# EAGLE library part LTC1622 (library xess)
Low input voltage current mode step-down DC/DC controller
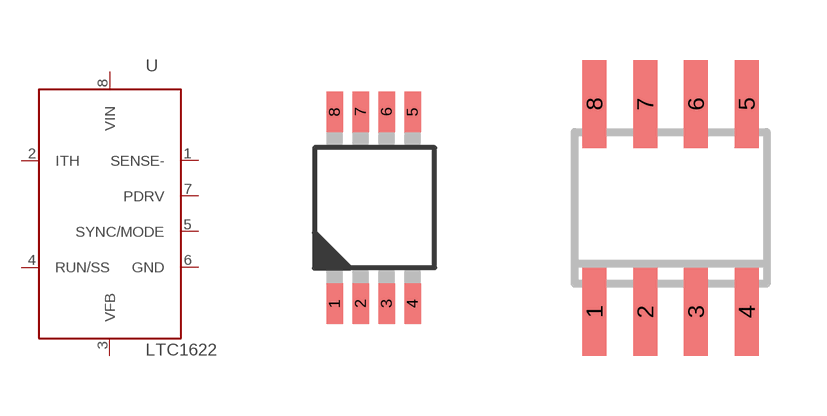
[diagram p31: symbol with the pads of MSOP8; footprints MSOP8, SO8]

Designator prefix U

## LTC1622-MSOP8  [MSOP8]
1  SENSE-  in
2  ITH  pas
3  VFB  in
4  RUN/SS  pas
5  SYNC/MODE  in
6  GND  pwr
7  PDRV  out
8  VIN  in

## LTC1622-SOIC8  [SO8]
Pads as for MSOP8

## Footprint MSOP8 (pad centres in mm)
smd 0.41 x 1.02: 1 0,0; 2 0.65,0; 3 1.3,0; 4 1.95,0; 5 1.95,4.8; 6 1.3,4.8; 7 0.65,4.8; 8 0,4.8

## Footprint SO8 (pad centres in mm)
smd 0.6 x 2.2: 1 -1.905,-2.6; 2 -0.635,-2.6; 3 0.635,-2.6; 4 1.905,-2.6; 5 1.905,2.6; 6 0.635,2.6; 7 -0.635,2.6; 8 -1.905,2.6